# Altium schematic symbol library Summits7Beta_LIB_Integrados_Sch.SchLib: 11 symbols
Pins are listed as number, name and electrical type; pins without a type are passive.

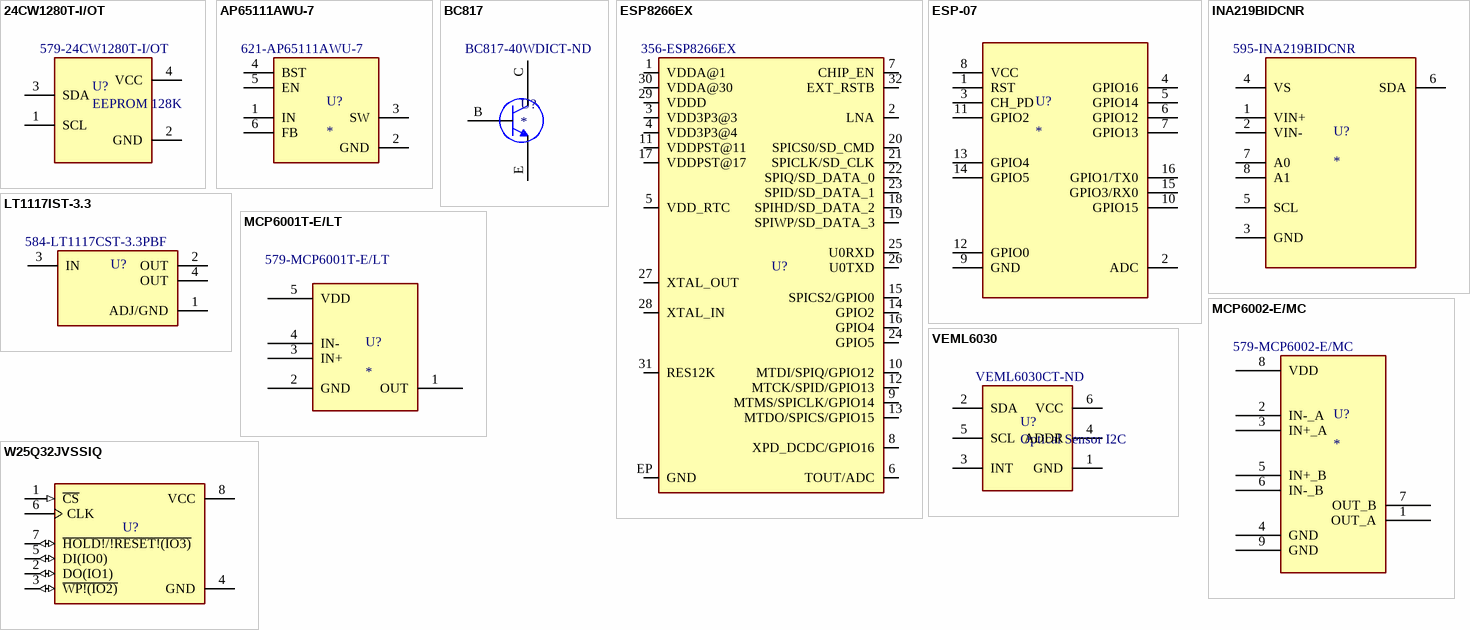
[diagram p0: symbols 24CW1280T-I/OT to W25Q32JVSSIQ]

## 24CW1280T-I/OT
designator U?, comment EEPROM 128K  Supplier Part Number 1: 579-24CW1280T-I/OT
Supplier 1: Mouser
footprint 24CW128 (Footprint EEPROM SOT23)
pins: 1 SCL, 2 GND, 3 SDA, 4 VCC

## AP65111AWU-7
designator U?  Supplier Part Number 1: 621-AP65111AWU-7
Buck Switching Regulator IC Positive Adjustable 0.8V 1 Output 1.5A SOT-23-6 Thin, TSOT-23-6; MP: AP65111AWU-7; MF: Diodes Inc.; Availability: Unavailable; SnapEDA_Link: https://www.snapeda.com/parts/AP65111AWU-7/Diodes%20Inc./view-part/1631258/?ref=snap; Price: None; Value: *; Package: TSOT-23-6 Diodes Inc.; Supplier 1: Mouser
footprint AP65111A-SOT23-6 (Footprint Buck)
pins: 1 IN, 2 GND, 3 SW, 4 BST, 5 EN, 6 FB

## BC817
designator U?  Supplier Part Number 1: BC817-40WDICT-ND
Transistor NPN; Supplier 1: Digi-Key
footprint Transistor_SOT23-3 (Transistor NPN)
pins: B, C, E

## ESP8266EX
designator U?  Supplier Part Number 1: 356-ESP8266EX  (hidden comment: *)
Microcontrolador ESP8266; MF: Espressif Systems; Availability: Unavailable; SnapEDA_Link: https://www.snapeda.com/parts/ESP8266/Espressif%20Systems/view-part/106411/?ref=snap; Package: VFQFN-32 Espressif Systems; Value: *; MP: ESP8266; Price: None; Supplier 1: Mouser
footprint ESP8266_QFN32-5X5MM (Footprint del ESP8266EX)
pins: 1 VDDA@1, 2 LNA (io), 3 VDD3P3@3 (io), 4 VDD3P3@4 (io), 5 VDD_RTC (io), 6 TOUT/ADC, 7 CHIP_EN, 8 XPD_DCDC/GPIO16 (io), 9 MTMS/SPICLK/GPIO14 (io), 10 MTDI/SPIQ/GPIO12 (io), 11 VDDPST@11, 12 MTCK/SPID/GPIO13 (io), 13 MTDO/SPICS/GPIO15, 14 GPIO2, 15 SPICS2/GPIO0 (io), 16 GPIO4 (io), 17 VDDPST@17, 18 SPIHD/SD_DATA_2 (io), 19 SPIWP/SD_DATA_3 (io), 20 SPICS0/SD_CMD (io), 21 SPICLK/SD_CLK (io), 22 SPIQ/SD_DATA_0 (io), 23 SPID/SD_DATA_1 (io), 24 GPIO5 (io), 25 U0RXD (io), 26 U0TXD (io), 27 XTAL_OUT (io), 28 XTAL_IN (io), 29 VDDD, 30 VDDA@30, 31 RES12K (io), 32 EXT_RSTB (io), EP GND

## ESP-07
designator U?
ESP07 Module with Antenna Ai-Thinker; MP: AP65111AWU-7; MF: Diodes Inc.; Availability: Unavailable; SnapEDA_Link: https://www.snapeda.com/parts/AP65111AWU-7/Diodes%20Inc./view-part/1631258/?ref=snap; Price: None; Value: *; Package: TSOT-23-6 Diodes Inc.
footprint ESP-07 (ESP8266 Modulo)
pins: 1 RST, 2 ADC, 3 CH_PD, 4 GPIO16, 5 GPIO14, 6 GPIO12, 7 GPIO13, 8 VCC, 9 GND, 10 GPIO15, 11 GPIO2, 12 GPIO0, 13 GPIO4, 14 GPIO5, 15 GPIO3/RX0, 16 GPIO1/TX0

## INA219BIDCNR
designator U?  Supplier Part Number 1: 595-INA219BIDCNR
Current Monitor Regulator High-Side 10mA SOT-23-8; MP: INA219BIDCNR; MF: Texas Instruments; SnapEDA_Link: https://www.snapeda.com/parts/INA219BIDCNR/Texas%20Instruments/view-part/870494/?ref=snap; Value: *; Digi-Key_Part_Number: 296-46420-1-ND; Digi-Key_Purchase_URL: https://www.digikey.com.au/product-detail/en/texas-instruments/INA219BIDCNR/296-46420-1-ND/7033594?utm_source=snapeda&utm_medium=aggregator&utm_campaign=symbol; Package: SOT-23 Texas Instruments; Supplier 1: Mouser
footprint INA219B SOT23 (Current Monitor)
pins: 1 VIN+, 2 VIN-, 3 GND, 4 VS (power), 5 SCL, 6 SDA, 7 A0, 8 A1

## LT1117IST-3.3
designator U?  Supplier Part Number 1: 584-LT1117CST-3.3PBF  (hidden comment: *)
LDO Regulator Pos 3.3V 0.8A Automotive 4-Pin_3+Tab_ SOT-223 Tube; MP: LT1117IST-5#PBF; MF: Analog Devices; Value: *; Availability: Unavailable; Price: None; Package: SOT-223-3 Analog Devices; SnapEDA_Link: https://www.snapeda.com/parts/LT1117IST-5%23PBF/Analog%20Devices/view-part/4348177/?ref=snap; Supplier 1: Mouser
footprint LT1117IST-3.3_SOT-223 (Regulador 3.3V)
pins: 1 ADJ/GND, 2 OUT, 3 IN, 4 OUT

## MCP6001T-E/LT
designator U?  Supplier Part Number 1: 579-MCP6001T-E/LT
OP AMP - 1.8V 1MHz  Single Supply; Supplier 1: Mouser
footprint MCP6001-SC70-5 (Footprint OPAMP)
pins: 1 OUT, 2 GND, 3 IN+, 4 IN-, 5 VDD (power)

## MCP6002-E/MC
designator U?  Supplier Part Number 1: 579-MCP6002-E/MC
Double OP AMP - 1.8V 1MHz  Single Supply; Supplier 1: Mouser
footprint MCP6002-DFN8
pins: 1 OUT_A, 2 IN-_A, 3 IN+_A, 4 GND, 5 IN+_B, 6 IN-_B, 7 OUT_B, 8 VDD, 9 GND

## VEML6030
designator U?, comment Optical Sensor I2C  Supplier Part Number 1: VEML6030CT-ND
Optical Ambiental Light Sensor I2C with Interrupt; Supplier 1: Digi-Key
footprint VEML6030
pins: 1 GND, 2 SDA, 3 INT, 4 ADDR, 5 SCL, 6 VCC

## W25Q32JVSSIQ
designator U?  (value not drawn)
FLASH - NOR Memory IC 32Mb _4M x 8_ SPI - Quad I/O 133MHz 8-SOIC; MF: Winbond; MP: W25Q32JVSSIQ; Package: SOIC-8 Winbond; Price: None; SnapEDA_Link: https://www.snapeda.com/parts/W25Q32JVSSIQ/Winbond%20Electronics/view-part/596953/?ref=snap; Availability: Unavailable; Value: *
footprint W25Q32JVSSIQ_SOIC127P790X216-8N (Memoria Flash SOIC8 SS)
pins: 1 ~{CS} (in), 2 DO(IO1) (io), 3 ~{WP!(IO2)} (io), 4 GND, 5 DI(IO0) (io), 6 CLK, 7 ~{HOLD!/!RESET!(IO3)} (io), 8 VCC (power)